# EAGLE library part 749020111A (library PASSIVES)
WE-LAN 10/100/1000 BASE-T SMT TR
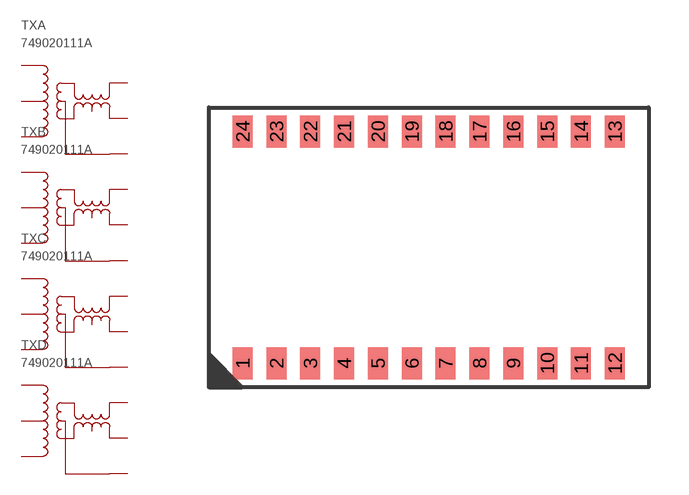
[diagram p2: symbol with the pads of 749020111A; footprint 749020111A]

Designator prefix TX; gates A=ETHERNET_TX_SINGLE B=ETHERNET_TX_SINGLE C=ETHERNET_TX_SINGLE D=ETHERNET_TX_SINGLE

## 749020111A (DIGIKEY: 732-14052-1-ND; HEIGHT: 3; PRICE_PER: 3.27; VALUE: 749020111A)  [749020111A]
1  A:D+
2  A:D-
3  A:TD
4  B:TD
5  B:D+
6  B:D-
7  C:D+
8  C:D-
9  C:TD
10  D:TD
11  D:D+
12  D:D-
13  D:X-
14  D:X+
15  D:TX
16  C:TX
17  C:X-
18  C:X+
19  B:X-
20  B:X+
21  B:TX
22  A:TX
23  A:X-
24  A:X+

## Footprint 749020111A (pad centres in mm)
smd 0.75 x 1.2: 1 -6.985,-4.35; 2 -5.715,-4.35; 3 -4.445,-4.35; 4 -3.175,-4.35; 5 -1.905,-4.35; 6 -0.635,-4.35; 7 0.635,-4.35; 8 1.905,-4.35; 9 3.175,-4.35; 10 4.445,-4.35; 11 5.715,-4.35; 12 6.985,-4.35; 13 6.985,4.35; 14 5.715,4.35; 15 4.445,4.35; 16 3.175,4.35; 17 1.905,4.35; 18 0.635,4.35; 19 -0.635,4.35; 20 -1.905,4.35; 21 -3.175,4.35; 22 -4.445,4.35; 23 -5.715,4.35; 24 -6.985,4.35